# EAGLE library part AM29LV004F (library am29-memory)
4-Megabit FLASH MEMORY (512 K x 8 bit/256 K x 16 bit) 3 V-only
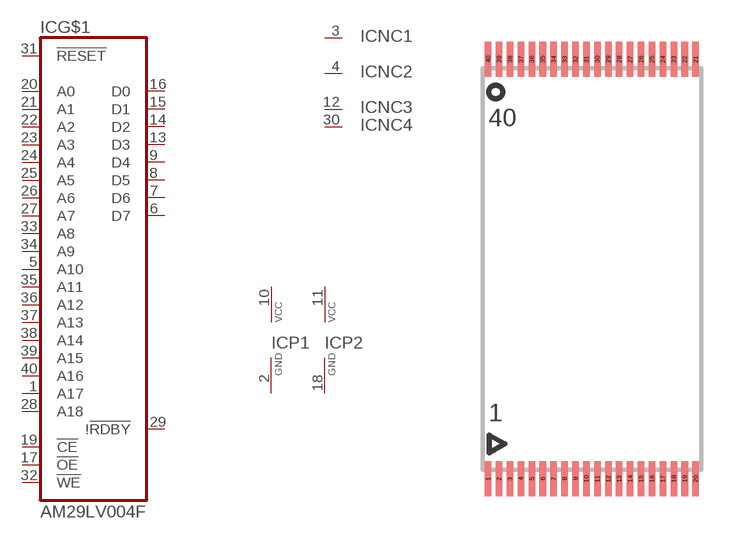
[diagram p4: symbol with the pads of RTSOP40; footprint RTSOP40]

Designator prefix IC; gates G$1=29LV004 NC1=NC NC2=NC NC3=NC NC4=NC P1=VCC-GND P2=VCC-GND

## AM29LV004F  [RTSOP40]
1  G$1:A17  in
2  P1:GND  pwr
3  NC1:NC  nc
4  NC2:NC  nc
5  G$1:A10  in
6  G$1:D7  hiz
7  G$1:D6  hiz
8  G$1:D5  hiz
9  G$1:D4  hiz
10  P1:VCC  pwr
11  P2:VCC  pwr
12  NC3:NC  nc
13  G$1:D3  hiz
14  G$1:D2  hiz
15  G$1:D1  hiz
16  G$1:D0  hiz
17  G$1:!OE  in
18  P2:GND  pwr
19  G$1:!CE  in
20  G$1:A0  in
21  G$1:A1  in
22  G$1:A2  in
23  G$1:A3  in
24  G$1:A4  in
25  G$1:A5  in
26  G$1:A6  in
27  G$1:A7  in
28  G$1:A18  in
29  G$1:!!RDBY  out
30  NC4:NC  nc
31  G$1:!RESET  in
32  G$1:!WE  in
33  G$1:A8  in
34  G$1:A9  in
35  G$1:A11  in
36  G$1:A12  in
37  G$1:A13  in
38  G$1:A14  in
39  G$1:A15  in
40  G$1:A16  in

## Footprint RTSOP40 (pad centres in mm)
Reverse TSOP40
smd 0.3 x 1.6: 1 -4.75,-9.6; 2 -4.25,-9.6; 3 -3.75,-9.6; 4 -3.25,-9.6; 5 -2.75,-9.6; 6 -2.25,-9.6; 7 -1.75,-9.6; 8 -1.25,-9.6; 9 -0.75,-9.6; 10 -0.25,-9.6; 11 0.25,-9.6; 12 0.75,-9.6; 13 1.25,-9.6; 14 1.75,-9.6; 15 2.25,-9.6; 16 2.75,-9.6; 17 3.25,-9.6; 18 3.75,-9.6; 19 4.25,-9.6; 20 4.75,-9.6; 21 4.75,9.6; 22 4.25,9.6; 23 3.75,9.6; 24 3.25,9.6; 25 2.75,9.6; 26 2.25,9.6; 27 1.75,9.6; 28 1.25,9.6; 29 0.75,9.6; 30 0.25,9.6; 31 -0.25,9.6; 32 -0.75,9.6; 33 -1.25,9.6; 34 -1.75,9.6; 35 -2.25,9.6; 36 -2.75,9.6; 37 -3.25,9.6; 38 -3.75,9.6; 39 -4.25,9.6; 40 -4.75,9.6